# Altium schematic symbol library MT7601U.SchLib: 1 symbol
Pins are listed as number, name and electrical type; pins without a type are passive.

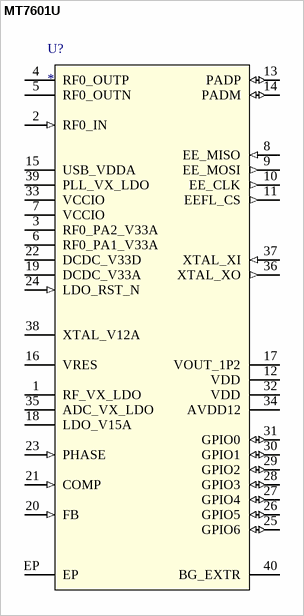
[diagram p0: symbol MT7601U]

## MT7601U
designator U?
pins: 1 RF_VX_LDO (power), 2 RF0_IN (in), 3 RF0_PA2_V33A (power), 4 RF0_OUTP, 5 RF0_OUTN, 6 RF0_PA1_V33A (power), 7 VCCIO (power), 8 EE_MISO (in), 9 EE_MOSI (out), 10 EE_CLK (out), 11 EEFL_CS (out), 12 VDD (power), 13 PADP (io), 14 PADM (io), 15 USB_VDDA (power), 16 VRES, 17 VOUT_1P2 (power), 18 LDO_V15A (power), 19 DCDC_V33A (power), 20 FB (in), 21 COMP (in), 22 DCDC_V33D (power), 23 PHASE (in), 24 LDO_RST_N (in), 25 GPIO6 (io), 26 GPIO5 (io), 27 GPIO4 (io), 28 GPIO3 (io), 29 GPIO2 (io), 30 GPIO1 (io), 31 GPIO0 (io), 32 VDD (power), 33 VCCIO (power), 34 AVDD12 (power), 35 ADC_VX_LDO (power), 36 XTAL_XO (out), 37 XTAL_XI (in), 38 XTAL_V12A (power), 39 PLL_VX_LDO (power), 40 BG_EXTR, EP (power)